# Altium footprint library cheese_cave.PcbLib: 28 footprints (part 1 of 2)
Each footprint in its own frame and in the unit in brackets; x right, y up, seen from the top. Pads: shape width x height; smd on the part's side, far side on the other; paste and mask are expansions set on the pad; w line width, h text height; cw(c..) or ccw(c..) is an arc to the next point about the centre after c.
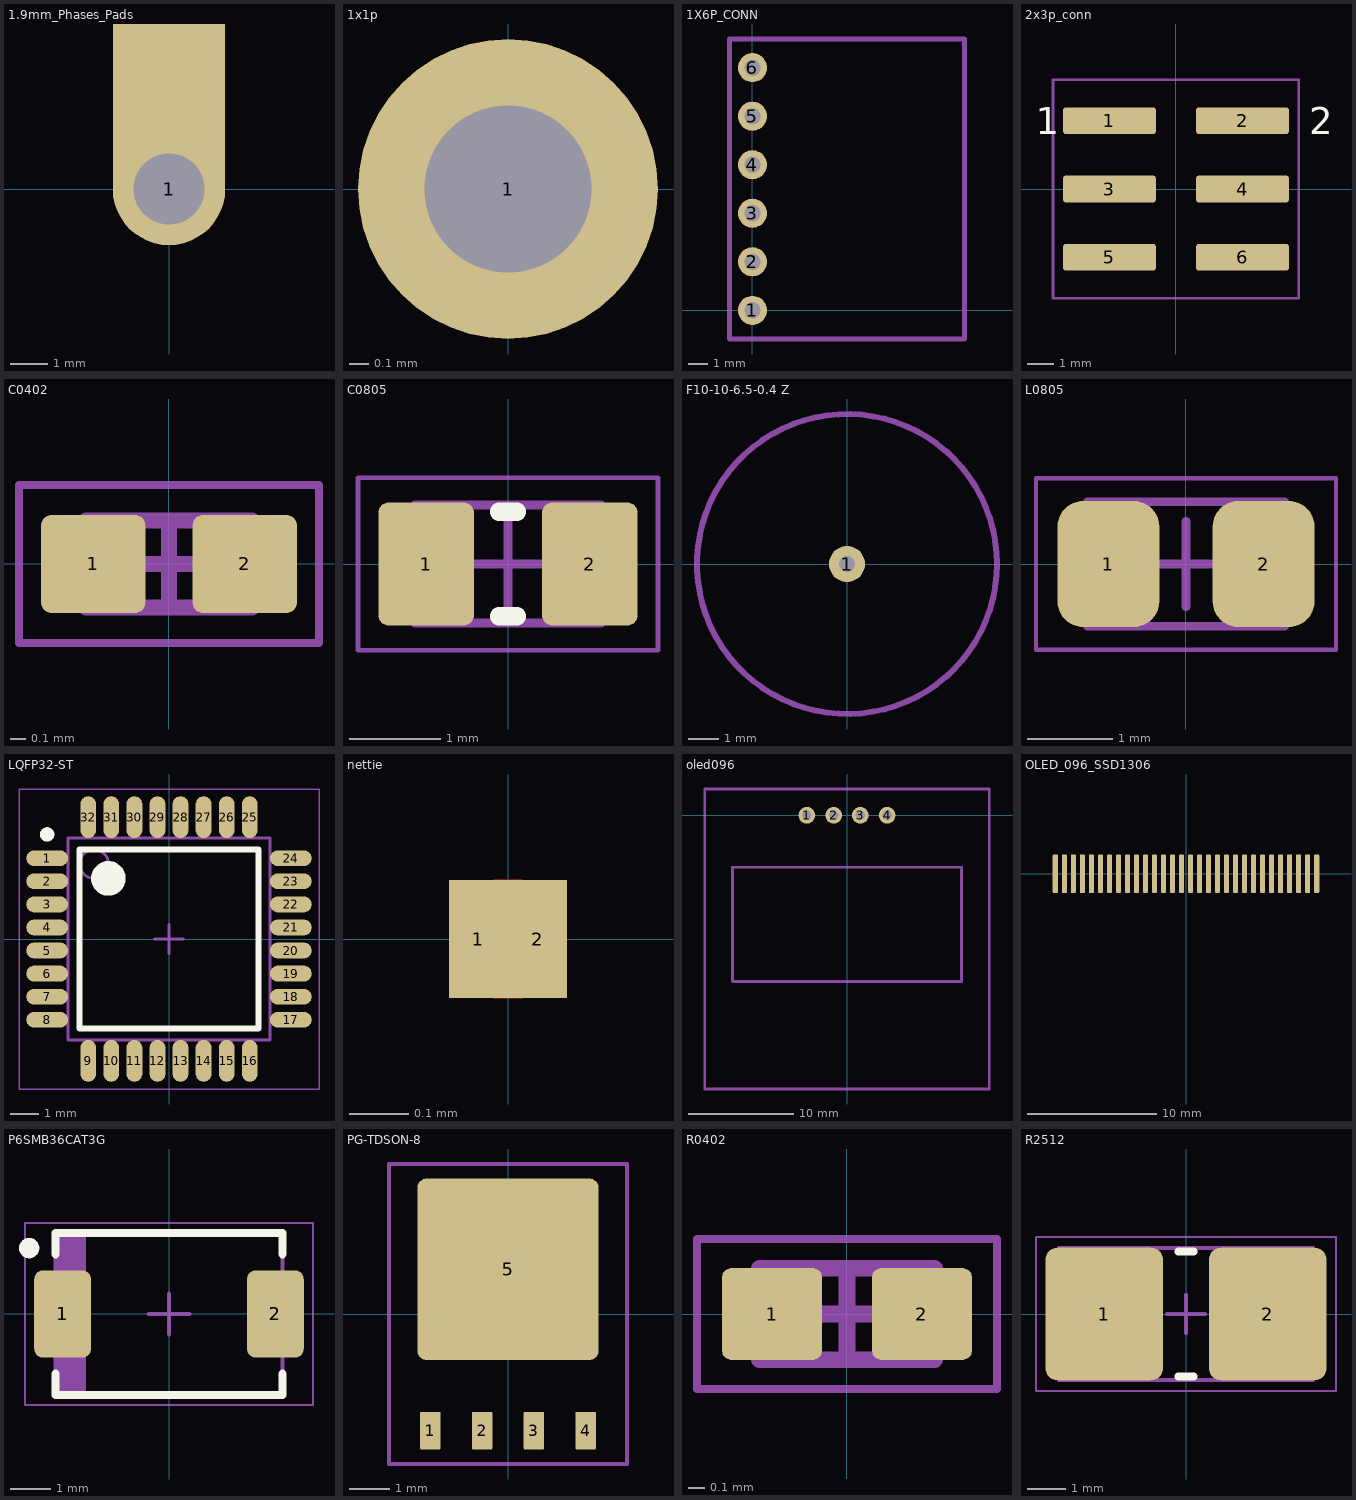
[diagram p0: the footprints below, top view; thin cyan lines are the x and y axes]

## 1.9mm_Phases_Pads [mm]
pads (1):
  oval 3x8 hole 1.9 copper offset 0,2.5: 1(0,0)

## 1x1p [mil]
pads (1):
  round 60 hole 33.46: 1(0,0)

## 1X6P_CONN [mil]
pads (6):
  round 60 hole 33.46: 1(0,0) 2(0,100) 3(0,200) 4(0,300) 5(0,400) 6(0,500)
Mechanical 15:
  lines w10: -47.24,-59.06 -47.24,559.06 -43.31,559.06 437.01,559.06 437.01,-59.06 -47.24,-59.06
3D body "Pin Header 1x6 TH Angle Pitch 2.54mm.stp": height 121.65, standoff -125.98, extent -12.43,-49.82 425.04,550.38

## 2x3p_conn [mm]
pads (6):
  rrect20% 3.45x1 smd: 1(-2.475,2.54) 2(2.475,2.54) 3(-2.475,0) 4(2.475,0) 5(-2.475,-2.54) 6(2.475,-2.54)
Top Overlay:
  text "1" at -5.207,2.032 h1
  text "2" at 4.953,2.032 h1
Mechanical 15:
  lines w0.1: -4.572,-4.064 -4.572,4.064 4.572,4.064 4.572,-4.064 -4.572,-4.064
3D body "Header - SMD - Vertical - Dual Row - 6.stp": height 9.7, standoff 0, extent -3.734,-3.81 3.81,3.81

## C0402 [mm] "Chip Capacitor, 2-Leads, Body 1.00x0.50mm, IPC Medium Density"
height 0.55
pads (2):
  rrect20% 0.66x0.62 smd mask+0.05: 1(-0.48,0) 2(0.48,0)
Mechanical 13:
  lines w0.1: -0.525,-0.275 0.525,-0.275 0.525,0.275 -0.525,0.275 -0.525,-0.275
Mechanical 15:
  lines w0.05: -0.95,-0.5 0.95,-0.5 0.95,0.5 -0.95,0.5 -0.95,-0.5
  lines w0.1: -0.275,0 0.275,0 ; 0,-0.275 0,0.275
3D body "CAPC1005X06N.step": height 0.55, standoff 0, extent -0.525,-0.275 0.525,0.275

## C0805 [mm] "Chip Capacitor, 2-Leads, Body 2.00x1.25mm, IPC Medium Density"
height 0.6
pads (2):
  rrect20% 1.05x1.35 smd: 1(-0.9,0) 2(0.9,0)
Top Overlay:
  lines w0.2: -0.1,-0.575 0.1,-0.575 ; -0.1,0.575 0.1,0.575
Mechanical 13:
  lines w0.1: -1.025,-0.65 -1.025,0.65 1.025,0.65 1.025,-0.65 -1.025,-0.65
Mechanical 15:
  lines w0.05: -1.65,-0.95 -1.65,0.95 1.65,0.95 1.65,-0.95 -1.65,-0.95
  lines w0.1: -0.5,0 0.5,0 ; 0,-0.5 0,0.5
3D body "CAPC2012X06N.step": height 0.6, standoff 0, extent -1.025,-0.65 1.025,0.65

## F10-10-6.5-0.4 Z [mm] "Touch sensing spring"
pads (1):
  round 1.2 hole 0.55: 1(0,0)
Mechanical 15:
  circle w0.2: c0,0 r5
3D body "spring.STEP": height 11.4, standoff -3.1, extent -5.198,-5.198 5.198,5.197

## L0805 [mm] "Chip Inductor, 2-Leads, Body 2.10x1.25mm, IPC Medium Density"
height 1.05
pads (2):
  rrect50% 1.19x1.47 smd: 1(-0.905,0) 2(0.905,0)
Mechanical 13:
  lines w0.1: -1.15,-0.725 1.15,-0.725 1.15,0.725 -1.15,0.725 -1.15,-0.725
Mechanical 15:
  lines w0.05: -1.75,-1 1.75,-1 1.75,1 -1.75,1 -1.75,-1
  lines w0.1: -0.5,0 0.5,0 ; 0,-0.5 0,0.5
3D body "INDC2112X10N.step": height 1.05, standoff 0, extent -1.15,-0.725 1.15,0.725

## LQFP32-ST [mm] "TQFP, 32-Leads, Body 7.00x7.00mm, Pitch 0.80mm, IPC Medium Density"
height 1.6
pads (32):
  oval 1.45x0.55 smd: 1(-4.225,2.8) 2(-4.225,2) 3(-4.225,1.2) 4(-4.225,0.4) 5(-4.225,-0.4) 6(-4.225,-1.2) 7(-4.225,-2) 8(-4.225,-2.8) 17(4.225,-2.8) 18(4.225,-2) 19(4.225,-1.2) 20(4.225,-0.4) 21(4.225,0.4) 22(4.225,1.2) 23(4.225,2) 24(4.225,2.8)
  oval 0.55x1.45 smd: 9(-2.8,-4.225) 10(-2,-4.225) 11(-1.2,-4.225) 12(-0.4,-4.225) 13(0.4,-4.225) 14(1.2,-4.225) 15(2,-4.225) 16(2.8,-4.225) 25(2.8,4.225) 26(2,4.225) 27(1.2,4.225) 28(0.4,4.225) 29(-0.4,4.225) 30(-1.2,4.225) 31(-2,4.225) 32(-2.8,4.225)
Top Overlay:
  circle w0.25: c-4.225,3.625 r0.125
  circle w0.6: c-2.1,2.1 r0.3
  lines w0.2: -3.1,-3.1 -3.1,3.1 3.1,3.1 3.1,-3.1 -3.1,-3.1
Mechanical 13:
  circle w0.1: c-2.6,2.6 r0.5
  lines w0.1: -3.5,-3.5 -3.5,3.5 3.5,3.5 3.5,-3.5 -3.5,-3.5
Mechanical 15:
  lines w0.05: -5.2,-5.2 -5.2,5.2 5.2,5.2 5.2,-5.2 -5.2,-5.2
  lines w0.1: -0.5,0 0.5,0 ; 0,-0.5 0,0.5
3D body "TQFP80P900X900X160-32N.step": height 1.6, standoff 0, extent -4.5,-4.5 4.5,4.5

## nettie [mm]
pads (2):
  rect 0.1x0.2 smd mask+0: 1(-0.05,0) 2(0.05,0)
Top Layer:
  region: -0.025,0.1 0.025,0.1 0.025,-0.1 -0.025,-0.1

## oled096 [mm]
pads (4):
  round 1.6 hole 0.9: 1(-3.81,0) 2(-1.27,0) 3(1.27,0) 4(3.81,0)
Mechanical 2:
  lines w0.254: -13.5,-26 13.5,-26 13.5,2.5 -13.5,2.5 -13.5,-26 ; -10.87,-15.79 10.87,-15.79 10.87,-4.93 -10.87,-4.93 -10.87,-15.79
  text "Screen" at -4.317,-10.746 h1.52
3D body "OLED 128x64.STP": height 5.07, standoff -5.77, extent -13.36,-25.554 13.34,2.306

## OLED_096_SSD1306 [mm] "0.96 inch OLED screen with SSD1306 controller without PCB."
pads (30):
  rrect50% 0.4x3 smd: 1(-10.15,0) 2(-9.45,0) 3(-8.75,0) 4(-8.05,0) 5(-7.35,0) 6(-6.65,0) 7(-5.95,0) 8(-5.25,0) 9(-4.55,0) 10(-3.85,0) 11(-3.15,0) 12(-2.45,0) 13(-1.75,0) 14(-1.05,0) 15(-0.35,0) 16(0.35,0) 17(1.05,0) 18(1.75,0) 19(2.45,0) 20(3.15,0) 21(3.85,0) 22(4.55,0) 23(5.25,0) 24(5.95,0) 25(6.65,0) 26(7.35,0) 27(8.05,0) 28(8.75,0) 29(9.45,0) 30(10.15,0)
Bottom Overlay:
  lines w0.254: -10.872,-11.632 10.872,-11.632 10.872,-0.768 -10.872,-0.768 -10.872,-11.632
3D body "oled096.STEP": height 0.1, standoff -2.9, extent -13.3,-13.7 13.3,9.1

## P6SMB36CAT3G [mm] "Molded Diode, 2-Leads, Body 5.40x3.63mm, IPC Medium Density"
height 2.28
pads (2):
  rrect30% 1.4x2.15 smd: 1(-2.625,0) 2(2.625,0)
Top Overlay:
  circle w0.25: c-3.45,1.625 r0.125
  lines w0.2: -2.8,-1.475 -2.8,-2 2.8,-2 2.8,-1.475 ; -2.8,1.475 -2.8,2 2.8,2 2.8,1.475
Mechanical 13:
  rectangle: -2.8,-1.975 -2.047,1.975
  lines w0.1: -2.8,-1.975 2.8,-1.975 2.8,1.975 -2.8,1.975 -2.8,-1.975
Mechanical 15:
  lines w0.05: -3.55,-2.25 3.55,-2.25 3.55,2.25 -3.55,2.25 -3.55,-2.25
  lines w0.1: -0.5,0 0.5,0 ; 0,-0.5 0,0.5
3D body "DIOM5436X23N.step": height 2.28, standoff 0, extent -3.02,-1.975 3.02,1.975

## PG-TDSON-8 [mm] "Power Mosfet footprint"
height 1.2
pads (5):
  rrect10% 0.5x0.925 smd: 1(-1.905,-2.863) 2(-0.635,-2.863) 3(0.635,-2.863) 4(1.905,-2.863)
  rrect10% 4.455x4.455 smd: 5(0,1.098)
Mechanical 15:
  lines w0.1: -2.921,-3.683 -2.921,3.683 2.921,3.683 2.921,-3.683 -2.921,-3.683
3D body "Infineon - PG-TDSON-8-34.step": height 1.1, standoff 0, extent -2.705,-3.22 2.705,3.22

## R0402 [mm] "Chip Resistor, 2-Leads, Body 1.00x0.50mm, IPC Medium Density"
height 0.25
pads (2):
  rrect20% 0.6x0.55 smd mask+0.05: 1(-0.45,0) 2(0.45,0)
Mechanical 13:
  lines w0.1: -0.525,-0.275 -0.525,0.275 0.525,0.275 0.525,-0.275 -0.525,-0.275
Mechanical 15:
  lines w0.05: -0.9,-0.45 -0.9,0.45 0.9,0.45 0.9,-0.45 -0.9,-0.45
  lines w0.1: -0.275,0 0.275,0 ; 0,-0.275 0,0.275
3D body "RESC1005X02N.step": height 0.25, standoff 0, extent -0.525,-0.275 0.525,0.275

## R2512 [mm] "Chip Resistor, 2-Leads, Body 6.35x3.18mm, IPC Medium Density"
height 0.88
pads (2):
  rrect20% 3.05x3.45 smd: 1(-2.125,0) 2(2.125,0)
Top Overlay:
  lines w0.2: -0.2,-1.625 0.2,-1.625 ; -0.2,1.625 0.2,1.625
Mechanical 13:
  lines w0.1: -3.3,-1.715 3.3,-1.715 3.3,1.715 -3.3,1.715 -3.3,-1.715
Mechanical 15:
  lines w0.05: -3.9,-2 3.9,-2 3.9,2 -3.9,2 -3.9,-2
  lines w0.1: -0.5,0 0.5,0 ; 0,-0.5 0,0.5
3D body "RESC6432X09N.step": height 0.88, standoff 0, extent -3.3,-1.715 3.3,1.715